# EAGLE library part MP2816 (library Eagle_CAD_parts)
The MP28164 is a high-efficiency, low- quiescent current, buck-boost converter. FEATURES  1.8V Minimum Start-Up Input Voltage  1.2V to 5.5V Input Work Range  1.5V to 5V Output Range  4.2A Switching Current Limit  3.3V/2A Load Capability from a 2.5V-to- 5.5V Input Supply  2MHz Fixed or External Synchronous Switching Frequency  Selectable PSM/PWM Mode  Typical 25μA Quiescent Current  High Efficiency up to 95%  Load Disconnect during Shutdown  Internal Soft Start and Compensation  Power Good Indicator  Hiccup Mode for Short-Circuit Protection (SCP)  Over-Temperature Protection (OTP)  Available in a Small QFN-11 (2mmx3mm) Package
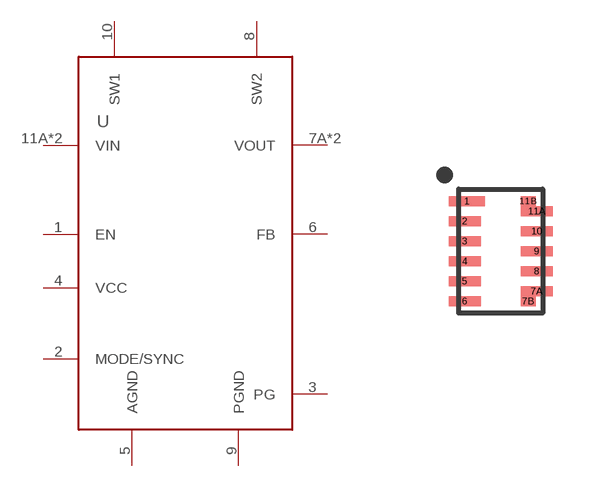
[diagram p95: symbol with the pads of 11-QFN-2X3; footprint 11-QFN-2X3]

Designator prefix U

## MP28164 (DIGIKEY_PART_NUMBER: 1589-MPQ28164GD-PCT-ND; MANUFACTURER_PART_NUMBER: MPQ28164GD-P)  [11-QFN-2X3]
1  EN
2  MODE/SYNC
3  PG
4  VCC
5  AGND
6  FB
7A  VOUT
7B  VOUT
8  SW2
9  PGND
10  SW1
11A  VIN
11B  VIN

## Footprint 11-QFN-2X3 (pad centres in mm)
smd 0.9 x 0.25: 1 -0.85,1.25
smd 0.8 x 0.25: 2 -0.9,0.75; 3 -0.9,0.25; 4 -0.9,-0.25; 5 -0.9,-0.75; 6 -0.9,-1.25; 7A 0.9,-1; 8 0.9,-0.5; 9 0.9,0; 10 0.9,0.5; 11A 0.9,1
smd 0.38 x 0.25: 7B 0.69,-1.25
smd 0.375 x 0.25: 11B 0.69,1.25